# Altium schematic symbol library TVS_single_bidirectional.SchLib: 1 symbol
Pins are listed as number, name and electrical type; pins without a type are passive.

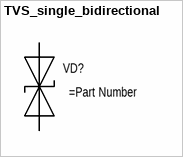
[diagram p0: symbol TVS_single_bidirectional]

## TVS_single_bidirectional
designator VD?
pins: 1 A, 2 C